# EAGLE library part 615032243321 (library 615008185221_Eagle_WR-MJ_rev20b)
WR-MJ Modular Jack Horizontal Shielded 2x Dual Stacked w. EMI Panel Finger 8P8C Tab Up&Down KIND PROPERTIES Quality Class:500 Mating cycles General Information Operating Temperature:-40 up to +85 °C Compliance:RoHS Electrical Properties IR 1:1.5 A Working Voltage:120 V (AC) Withstanding Voltage:1000 V (AC) Contact Resistance:20 mΩ RISO:500 MΩ Material Properties Insulator Material:PBT Insulator Flammability Rating:UL94 V-0 Color:Black Contact Material:Copper Alloy Contact Plating:Gold Contact Type:Stamped Shielding Material:Bronze Shielding Plating:Nickel Packaging Properties Packaging:Tray Details see: https://www.we-online.com/catalog/en/MJ_HORIZONTAL_SHIELDED_2X_DUAL_STACKED_PORT_EMI_FINGER_8P8C_TAB_UP_DOWN/ Updated by Yingchun,Shan 2020-1-2 2020(C) Würth Elektronik
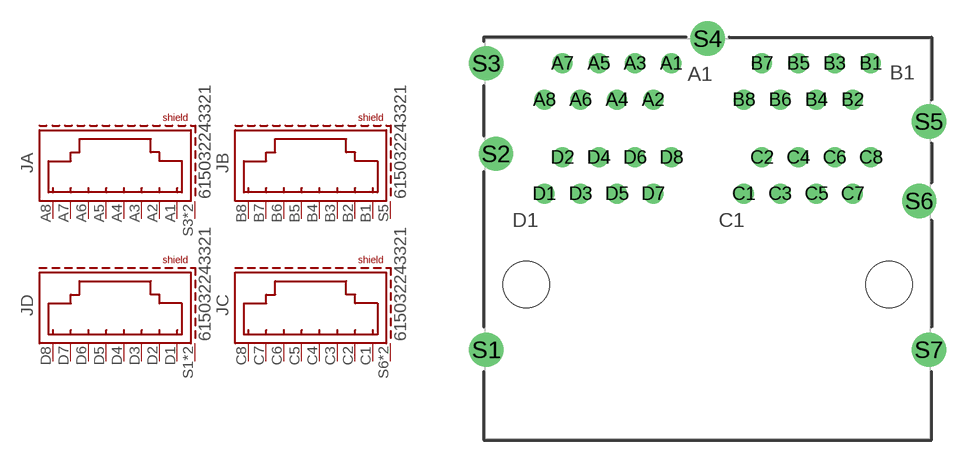
[diagram p58: symbol with the pads of 615032243321; footprint 615032243321]

Designator prefix J; gates A=8P8C_S B=8P8C_S C=8P8C_S D=8P8C_S

## 615032243321 (DATASHEET-URL: https://www.we-online.com/catalog/datasheet/615032243321.pdf; MOUNT: THT; PART-NUMBER: 615032243321; TYPE: Horizontal; VALUE: 615032243321; XPXC: 8P8C)  [615032243321]
A1  A:1  pas
A2  A:2  pas
A3  A:3  pas
A4  A:4  pas
A5  A:5  pas
A6  A:6  pas
A7  A:7  pas
A8  A:8  pas
B1  B:1  pas
B2  B:2  pas
B3  B:3  pas
B4  B:4  pas
B5  B:5  pas
B6  B:6  pas
B7  B:7  pas
B8  B:8  pas
C1  C:1  pas
C2  C:2  pas
C3  C:3  pas
C4  C:4  pas
C5  C:5  pas
C6  C:6  pas
C7  C:7  pas
C8  C:8  pas
D1  D:1  pas
D2  D:2  pas
D3  D:3  pas
D4  D:4  pas
D5  D:5  pas
D6  D:6  pas
D7  D:7  pas
D8  D:8  pas
S1  D:SHIELD  pas
S2  D:SHIELD  pas
S3  A:SHIELD  pas
S4  A:SHIELD  pas
S5  B:SHIELD  pas
S6  C:SHIELD  pas
S7  C:SHIELD  pas

## Footprint 615032243321 (pad centres in mm)
WR-MJ Horizontal Shielded 2 x Dual Stacked Port with EMI Panel Finger 8P8C M. Jack Tab Up & Down, 32 Pins
drill 0.89: A1 -2.54,12.27; A2 -3.81,9.73; A3 -5.08,12.27; A4 -6.35,9.73; A5 -7.62,12.27; A6 -8.89,9.73; A7 -10.16,12.27; A8 -11.43,9.73; B1 11.43,12.27; B2 10.16,9.73; B3 8.89,12.27; B4 7.62,9.73; B5 6.35,12.27; B6 5.08,9.73; B7 3.81,12.27; B8 2.54,9.73; C1 2.54,3.15; C2 3.81,5.69; C3 5.08,3.15; C4 6.35,5.69; C5 7.62,3.15; C6 8.89,5.69; C7 10.16,3.15; C8 11.43,5.69; D1 -11.43,3.15; D2 -10.16,5.69; D3 -8.89,3.15; D4 -7.62,5.69; D5 -6.35,3.15; D6 -5.08,5.69; D7 -3.81,3.15; D8 -2.54,5.69
drill 1.6: S1 -15.495,-7.77; S2 -14.82,5.94; S3 -15.495,12.27; S4 0,14; S5 15.495,8.2; S6 14.82,2.64; S7 15.495,-7.77
hole 3.25 at -12.7,-3.2
hole 3.25 at 12.7,-3.2